# EAGLE library part STM32F411RET6 (library STM32F411RET6)
32-Bit MCU+DSP 512K Flash 100MHz LQFP64 STMicroelectronics STM32F411RET6, 32bit ARM Cortex M4 MCU, 100MHz, 512 kB Flash, 64-Pin LQFP <https://componentsearchengine.com/Images/1/STM32F411RET6.jpg> Source: Datasheet <http://www.farnell.com/datasheets/2042639.pdf>
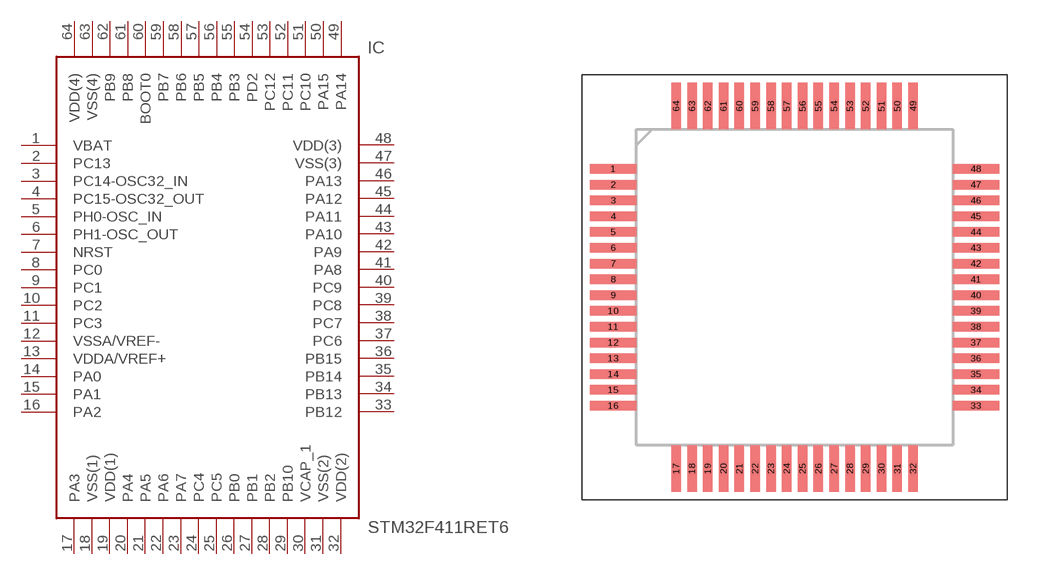
[diagram p0: symbol with the pads of QFP50P1200X1200X160-64N; footprint QFP50P1200X1200X160-64N]

Designator prefix IC

## STM32F411RET6 (Description: 32-Bit MCU+DSP 512K Flash 100MHz LQFP64 STMicroelectronics STM32F411RET6, 32bit ARM Cortex M4 MCU, 100MHz, 512 kB Flash, 64-Pin LQFP; Height: 1.6mm; Manufacturer_Name: STMicroelectronics; Manufacturer_Part_Number: STM32F411RET6; RS_Part_Number: 1106617P; Supplier_Name: RS)  [QFP50P1200X1200X160-64N]
1  VBAT  pas
2  PC13  pas
3  PC14-OSC32_IN  pas
4  PC15-OSC32_OUT  pas
5  PH0-OSC_IN  pas
6  PH1-OSC_OUT  pas
7  NRST  pas
8  PC0  pas
9  PC1  pas
10  PC2  pas
11  PC3  pas
12  VSSA/VREF-  pas
13  VDDA/VREF+  pas
14  PA0  pas
15  PA1  pas
16  PA2  pas
17  PA3  pas
18  VSS(1)  pas
19  VDD(1)  pas
20  PA4  pas
21  PA5  pas
22  PA6  pas
23  PA7  pas
24  PC4  pas
25  PC5  pas
26  PB0  pas
27  PB1  pas
28  PB2  pas
29  PB10  pas
30  VCAP_1  pas
31  VSS(2)  pas
32  VDD(2)  pas
33  PB12  pas
34  PB13  pas
35  PB14  pas
36  PB15  pas
37  PC6  pas
38  PC7  pas
39  PC8  pas
40  PC9  pas
41  PA8  pas
42  PA9  pas
43  PA10  pas
44  PA11  pas
45  PA12  pas
46  PA13  pas
47  VSS(3)  pas
48  VDD(3)  pas
49  PA14  pas
50  PA15  pas
51  PC10  pas
52  PC11  pas
53  PC12  pas
54  PD2  pas
55  PB3  pas
56  PB4  pas
57  PB5  pas
58  PB6  pas
59  PB7  pas
60  BOOT0  pas
61  PB8  pas
62  PB9  pas
63  VSS(4)  pas
64  VDD(4)  pas

## Footprint QFP50P1200X1200X160-64N (pad centres in mm)
LQFP, 10 X 10 X 1.4 PKG, 0.5 PITCH, 64LD
smd 1.475 x 0.3: 1 -5.738,3.75; 2 -5.738,3.25; 3 -5.738,2.75; 4 -5.738,2.25; 5 -5.738,1.75; 6 -5.738,1.25; 7 -5.738,0.75; 8 -5.738,0.25; 9 -5.738,-0.25; 10 -5.738,-0.75; 11 -5.738,-1.25; 12 -5.738,-1.75; 13 -5.738,-2.25; 14 -5.738,-2.75; 15 -5.738,-3.25; 16 -5.738,-3.75; 33 5.738,-3.75; 34 5.738,-3.25; 35 5.738,-2.75; 36 5.738,-2.25; 37 5.738,-1.75; 38 5.738,-1.25; 39 5.738,-0.75; 40 5.738,-0.25; 41 5.738,0.25; 42 5.738,0.75; 43 5.738,1.25; 44 5.738,1.75; 45 5.738,2.25; 46 5.738,2.75; 47 5.738,3.25; 48 5.738,3.75
smd 0.3 x 1.475: 17 -3.75,-5.738; 18 -3.25,-5.738; 19 -2.75,-5.738; 20 -2.25,-5.738; 21 -1.75,-5.738; 22 -1.25,-5.738; 23 -0.75,-5.738; 24 -0.25,-5.738; 25 0.25,-5.738; 26 0.75,-5.738; 27 1.25,-5.738; 28 1.75,-5.738; 29 2.25,-5.738; 30 2.75,-5.738; 31 3.25,-5.738; 32 3.75,-5.738; 49 3.75,5.738; 50 3.25,5.738; 51 2.75,5.738; 52 2.25,5.738; 53 1.75,5.738; 54 1.25,5.738; 55 0.75,5.738; 56 0.25,5.738; 57 -0.25,5.738; 58 -0.75,5.738; 59 -1.25,5.738; 60 -1.75,5.738; 61 -2.25,5.738; 62 -2.75,5.738; 63 -3.25,5.738; 64 -3.75,5.738